# EAGLE library part CLOCK (library integrated circuits)
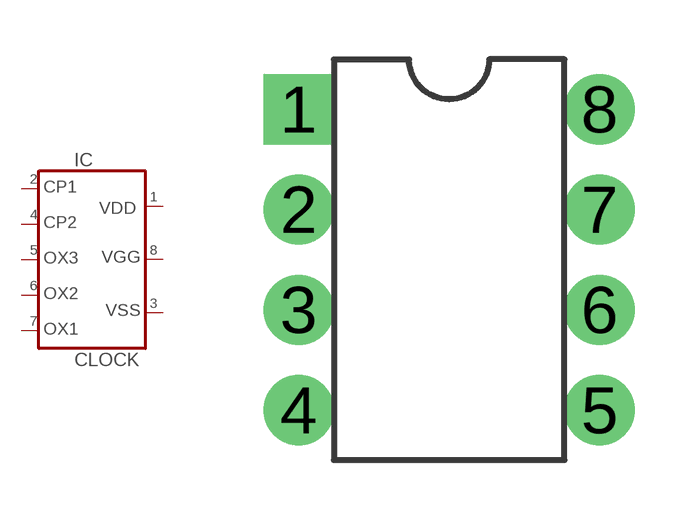
[diagram p15: symbol with the pads of DIL8; footprint DIL8]

Designator prefix IC

## CLOCK  [DIL8]
1  P$1
2  P$2
3  P$3
4  P$4
5  P$5
6  P$6
7  P$7
8  P$8

## Footprint DIL8 (pad centres in mm)
drill 1.016 pad 1.778 square: 1 -3.81,3.81
drill 1.016 pad 1.778: 2 -3.81,1.27; 3 -3.81,-1.27; 4 -3.81,-3.81; 5 3.81,-3.81; 6 3.81,-1.27; 7 3.81,1.27; 8 3.81,3.81